# Altium footprint library IC.PcbLib: 37 footprints (part 2 of 3)
Each footprint in its own frame and in the unit in brackets; x right, y up, seen from the top. Pads: shape width x height; smd on the part's side, far side on the other; paste and mask are expansions set on the pad; w line width, h text height; cw(c..) or ccw(c..) is an arc to the next point about the centre after c.
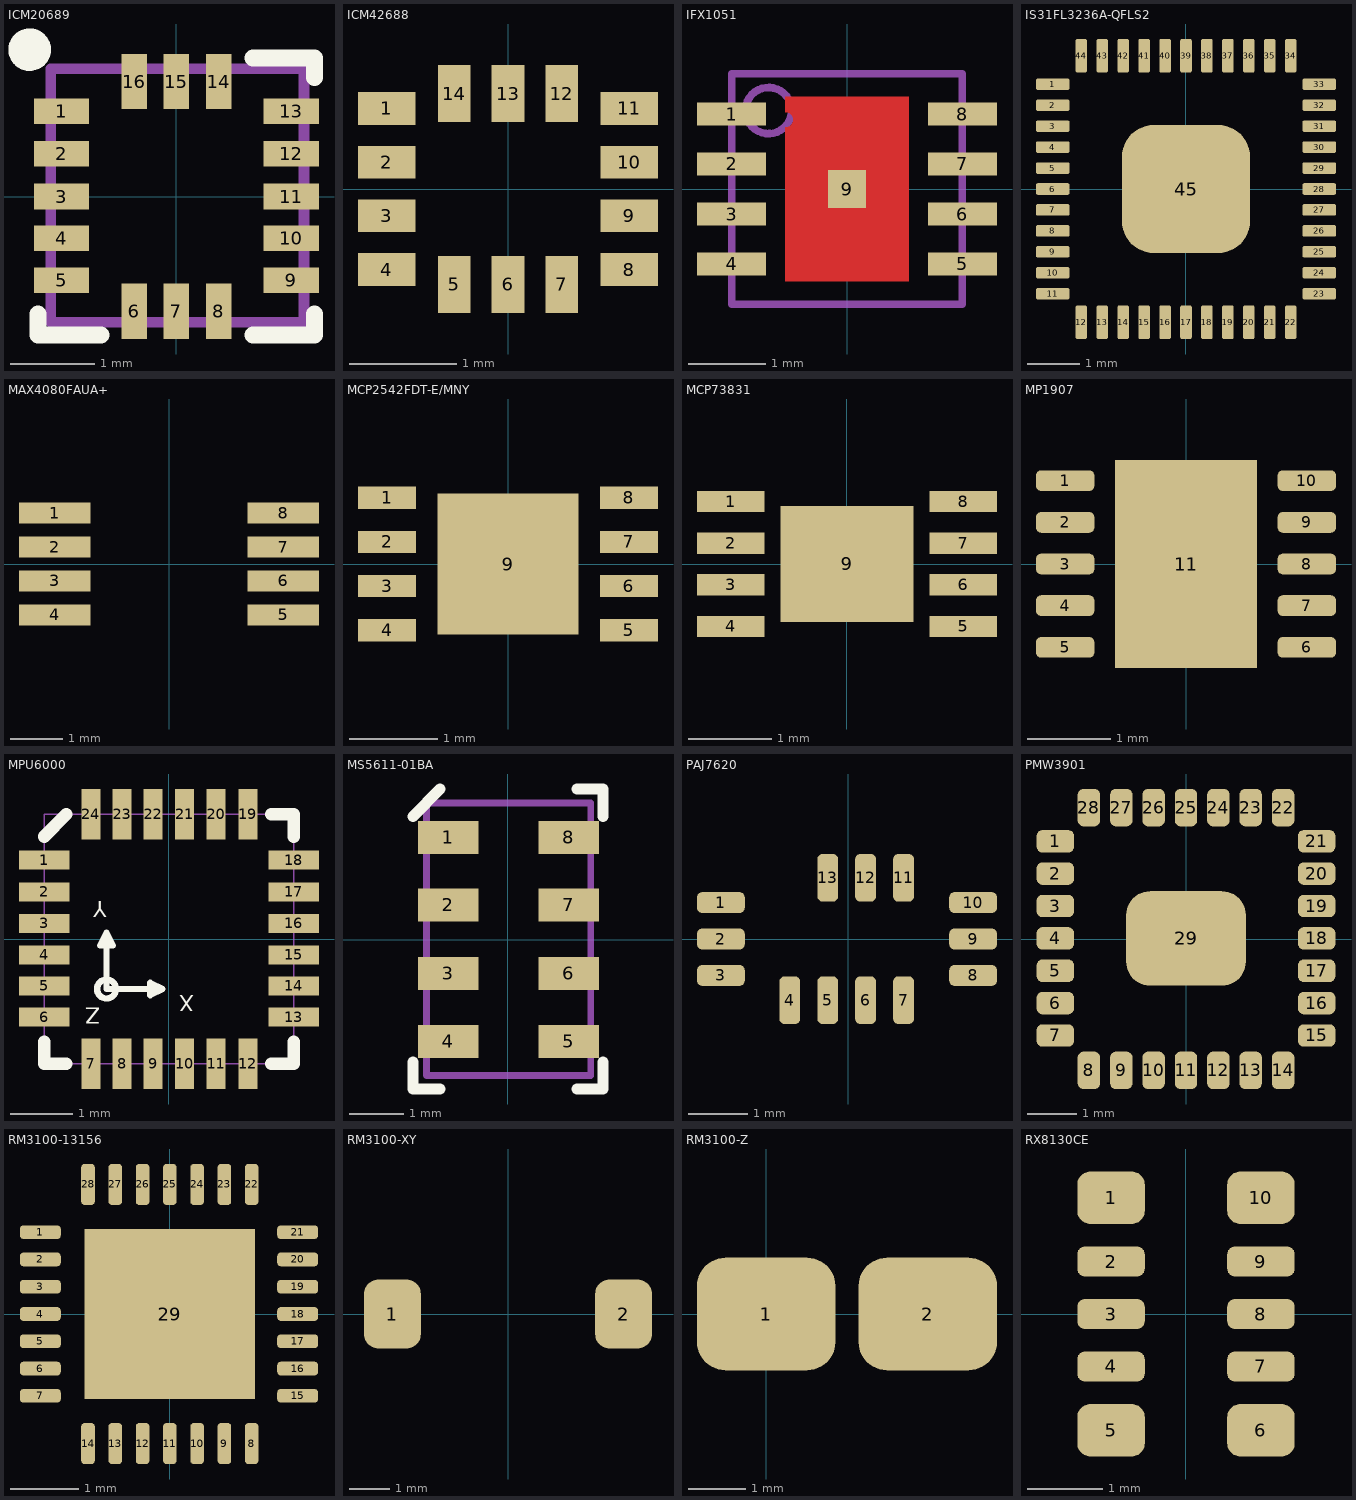
[diagram p1: the footprints below, top view; thin cyan lines are the x and y axes]

## ICM20689 [mil] "LGA-16L"
pads (16):
  rect 26x12 smd mask+0: 1(-53.94,40) 2(-53.94,20) 3(-53.94,0) 4(-53.94,-19.69) 5(-53.94,-39.37) 9(54,-39.37) 10(54,-19.69) 11(54,0) 12(54,20) 13(54,40)
  rect 12x26 smd mask+0: 6(-19.68,-53.94) 7(0,-53.94) 8(20,-53.94) 14(20,54) 15(0,54) 16(-19.68,54)
Top Overlay:
  circle w10: c-68.9,69 r5
  lines w8: -64.96,-55.12 -64.96,-64.96 -35.43,-64.96 ; 36,-64.96 65,-64.96 65,-55.12 ; 36,65 65,65 65,56
Mechanical 16:
  lines w5: -59.06,-59.06 60,-59.06 60,60 -59.06,60 -59.06,-59.06
3D body "LSM303D.STEP": height -16.54, standoff -56.69, extent -59.05,-59.05 59.06,59.06

## ICM42688 [mil]
pads (14):
  rect 21x12 smd paste+0 mask+0: 1(-44.5,29.53) 2(-44.5,9.84) 3(-44.5,-9.84) 4(-44.5,-29.53) 8(44.5,-29.53) 9(44.5,-9.84) 10(44.5,9.84) 11(44.5,29.53)
  rect 12x21 smd paste+0 mask+0: 5(-19.68,-35) 6(0,-35) 7(19.68,-35) 12(19.68,35) 13(0,35) 14(-19.68,35)
3D body "LGA14_2P5X3X0P91_IVS.step": height 38.11, standoff 0, extent -59.01,-49.01 59.02,49.02

## IFX1051 [mm]
pads (9):
  rect 0.9x0.3 smd paste+0 mask+0: 1(-1.5,0.975) 2(-1.5,0.325) 3(-1.5,-0.325) 4(-1.5,-0.975) 5(1.5,-0.975) 6(1.5,-0.325) 7(1.5,0.325) 8(1.5,0.975)
  rect 0.5x0.5 smd paste-0.5 mask-0.5: 9(0,0)
Top Layer:
  region: 0.8,1.2 -0.8,1.2 -0.8,1 -0.78,0.998 -0.744,0.983 -0.717,0.956 -0.702,0.92 -0.7,0.9 -0.702,0.88 -0.717,0.844 -0.744,0.817 -0.78,0.802 -0.8,0.8 -0.8,-1.2 0.8,-1.2
Top Paste:
  region: 0.1,0.1 0.7,0.1 0.7,1.1 0.1,1.1
  region: -0.1,-0.1 -0.7,-0.1 -0.7,-1.1 -0.1,-1.1
  region: 0.1,-0.1 0.7,-0.1 0.7,-1.1 0.1,-1.1
  region: -0.1,0.1 -0.7,0.1 -0.7,1.1 -0.1,1.1
Mechanical 13:
  circle w0.1: c-1.02,1.02 r0.3
  lines w0.1: -1.5,-1.5 1.5,-1.5 1.5,1.5 -1.5,1.5 -1.5,-1.5
Mechanical 15:
  lines w0.1: -0.5,0 0.5,0 ; 0,-0.5 0,0.5
3D body "TSON-8-1.stp": height 1.06, standoff 0, extent -1.5,-1.5 1.5,1.5

## IS31FL3236A-QFLS2 [mm]
pads (45):
  rrect30% 0.64x0.22 smd: 1(-2.545,2) 2(-2.545,1.6) 3(-2.545,1.2) 4(-2.545,0.8) 5(-2.545,0.4) 6(-2.545,0) 7(-2.545,-0.4) 8(-2.545,-0.8) 9(-2.545,-1.2) 10(-2.545,-1.6) 11(-2.545,-2) 23(2.545,-2) 24(2.545,-1.6) 25(2.545,-1.2) 26(2.545,-0.8) 27(2.545,-0.4) 28(2.545,0) 29(2.545,0.4) 30(2.545,0.8) 31(2.545,1.2) 32(2.545,1.6) 33(2.545,2)
  rrect30% 0.22x0.64 smd: 12(-2,-2.545) 13(-1.6,-2.545) 14(-1.2,-2.545) 15(-0.8,-2.545) 16(-0.4,-2.545) 17(0,-2.545) 18(0.4,-2.545) 19(0.8,-2.545) 20(1.2,-2.545) 21(1.6,-2.545) 22(2,-2.545) 34(2,2.545) 35(1.6,2.545) 36(1.2,2.545) 37(0.8,2.545) 38(0.4,2.545) 39(0,2.545) 40(-0.4,2.545) 41(-0.8,2.545) 42(-1.2,2.545) 43(-1.6,2.545) 44(-2,2.545)
  rrect50% 2.45x2.45 smd paste-2: 45(0,0)
3D body "IS31FL3236A-QFLS2-TR--3DModel-STEP-56544.STEP": height 0.8, standoff 0, extent -2.5,-2.5 2.5,2.5

## MAX4080FAUA+ [mil]
pads (8):
  rect 54x16 smd: 1(-86,38.39) 2(-86,12.8) 3(-86,-12.8) 4(-86,-38.39) 5(86,-38.39) 6(86,-12.8) 7(86,12.8) 8(86,38.39)
3D body "21-0036K.step": height 43.11, standoff 0, extent -99.01,-60.98 99.02,60.99

## MCP2542FDT-E/MNY [mil]
pads (9):
  rect 26x10 smd paste+0 mask+0: 1(-54,29.53) 2(-54,9.84) 3(-54,-9.84) 4(-54,-29.53) 5(54,-29.53) 6(54,-9.84) 7(54,9.84) 8(54,29.53)
  rect 63x63 smd paste+0 mask+0: 9(0,0)
3D body "User Library-8-TDFN (2x3.step": height 28.74, standoff -0.79, extent -59.1,-39.42 59.09,39.4

## MCP73831 [mil]
pads (9):
  rect 32x10 smd paste+0 mask+0: 1(-55,29.53) 2(-55,9.84) 3(-55,-9.84) 4(-55,-29.53) 5(55,-29.53) 6(55,-9.84) 7(55,9.84) 8(55,29.53)
  rect 62.99x55.12 smd paste+0 mask+0: 9(0,0)
3D body: height 25.79, standoff 0, extent -59.06,-39.86 59.06,39.86

## MP1907 [mm]
pads (11):
  rrect50% 0.7x0.25 smd: 1(-1.45,1) 2(-1.45,0.5) 3(-1.45,0) 4(-1.45,-0.5) 5(-1.45,-1) 6(1.45,-1) 7(1.45,-0.5) 8(1.45,0) 9(1.45,0.5) 10(1.45,1)
  rect 1.7x2.5 smd: 11(0,0)
3D body "User Library-10m1 QFN50P300X300X100-10_270X175_IPC-7351B.STEP": height 1, standoff -0.05, extent -1.51,-1.5 1.51,1.5

## MPU6000 [mil] "QFN24"
pads (24):
  rect 32x12 smd: 1(-78.74,50) 2(-78.74,30) 3(-78.74,10) 4(-78.74,-9.84) 5(-78.74,-29.53) 6(-78.74,-49.21) 13(79,-49.21) 14(79,-29.53) 15(79,-9.84) 16(79,10) 17(79,30) 18(79,50)
  rect 12x32 smd: 7(-49.21,-78.74) 8(-29.53,-78.74) 9(-9.84,-78.74) 10(10,-78.74) 11(30,-78.74) 12(50,-78.74) 19(50,79) 20(30,79) 21(10,79) 22(-9.84,79) 23(-29.53,79) 24(-49.21,79)
Top Overlay:
  circle w4: c-39.37,-31.5 r6
  lines w4: -39.37,4 -35.43,-3.94 -43.31,-3.94 -39.37,4 ; -39.37,4 -39.37,-31.5 -3.94,-31.5 ; -3.94,-31.5 -11.81,-27.56 -11.81,-35.43 -3.94,-31.5
  lines w8: -78.74,-64.96 -78.74,-78.74 -64.96,-78.74 ; -78.74,65 -64.96,79 ; 65,-78.74 79,-78.74 79,-64.96 ; 65,79 79,79 79,65
  text "Z" at -43.31,-43.31 h10.2
  text "Y" at -39.37,24 h10.2
  text "X" at 16,-35.43 h10.2
Mechanical 16:
  lines w1: -78.74,-78.74 79,-78.74 79,79 -78.74,79 -78.74,-78.74
3D body "MPU6000.STEP": height 35.43, standoff 0, extent -78.82,-78.82 78.82,78.82

## MS5611-01BA [mil] "MS5611-01BA"
pads (8):
  rect 44x24 smd: 1(-43.31,74) 2(-43.31,25) 3(-43.31,-24.61) 4(-43.31,-73.82) 5(44,-73.82) 6(44,-24.61) 7(44,25) 8(44,74)
Top Overlay:
  lines w8: -68.9,-88.58 -68.9,-108.27 -49.21,-108.27 ; -68.9,89 -49.21,109 ; 50,-108.27 69,-108.27 69,-88.58 ; 50,109 69,109 69,89
Mechanical 16:
  lines w1: -59.06,-98.43 -59.06,99 60,99 60,-98.43 -59.06,-98.43
  lines w5: -59.06,-98.43 -59.06,99 60,99 60,-98.43 -59.06,-98.43
3D body "MS5611-01BA03.STEP": height 39.37, standoff -1.97, extent -59.32,-97.97 58.79,98.88

## PAJ7620 [mm]
pads (13):
  rrect50% 0.8x0.35 smd paste+0 mask+0.102: 1(-2.137,0.61) 2(-2.137,0) 3(-2.137,-0.61) 8(2.088,-0.61) 9(2.088,0) 10(2.088,0.61)
  rrect50% 0.35x0.8 smd paste+0 mask+0.102: 4(-0.983,-1.025) 5(-0.348,-1.025) 6(0.287,-1.025) 7(0.922,-1.025) 11(0.922,1.025) 12(0.287,1.025) 13(-0.348,1.025)
3D body: height 1.88, standoff 0, extent -2.612,-1.5 2.613,1.5

## PMW3901 [mm]
pads (29):
  rrect50% 0.75x0.45 smd: 1(-2.625,1.963) 2(-2.625,1.312) 3(-2.625,0.663) 4(-2.625,0.012) 5(-2.625,-0.637) 6(-2.625,-1.288) 7(-2.625,-1.937) 15(2.625,-1.937) 16(2.625,-1.288) 17(2.625,-0.638) 18(2.625,0.012) 19(2.625,0.662) 20(2.625,1.312) 21(2.625,1.962)
  rrect50% 0.45x0.75 smd: 8(-1.95,-2.638) 9(-1.3,-2.638) 10(-0.65,-2.638) 11(0,-2.638) 12(0.65,-2.638) 13(1.3,-2.638) 14(1.95,-2.638) 22(1.95,2.638) 23(1.3,2.638) 24(0.65,2.638) 25(0,2.638) 26(-0.65,2.638) 27(-1.3,2.638) 28(-1.95,2.638)
  rrect50% 2.4x1.9 smd: 29(0,0.012)
3D body: height 1.15, standoff 0, extent -3.011,-3.008 3,3.012

## RM3100-13156 [mm]
pads (29):
  rrect50% 0.6x0.2 smd: 1(-1.9,1.2) 2(-1.9,0.8) 3(-1.9,0.4) 4(-1.9,0) 5(-1.9,-0.4) 6(-1.9,-0.8) 7(-1.9,-1.2) 15(1.875,-1.2) 16(1.875,-0.8) 17(1.875,-0.4) 18(1.875,0) 19(1.875,0.4) 20(1.875,0.8) 21(1.875,1.2)
  rrect50% 0.2x0.6 smd: 8(1.2,-1.9) 9(0.8,-1.9) 10(0.4,-1.9) 11(0,-1.9) 12(-0.4,-1.9) 13(-0.8,-1.9) 14(-1.2,-1.9) 22(1.2,1.9) 23(0.8,1.9) 24(0.4,1.9) 25(0,1.9) 26(-0.4,1.9) 27(-0.8,1.9) 28(-1.2,1.9)
  rect 2.5x2.5 smd: 29(0,0)
3D body "User Library-QFN28-0_4.STEP": height 0.75, standoff 0, extent -2,-2 2,2

## RM3100-XY [mm]
pads (2):
  rrect50% 1.4x1.7 smd: 1(-2.85,0) 2(2.85,0)
3D body: height 2.21, standoff 0, extent -3,-1.05 3,1.05

## RM3100-Z [mm]
pads (2):
  rrect50% 2.4x1.95 smd: 1(0,0) 2(2.8,0)
3D body: height 1.8, standoff 0, extent -0.525,-1.475 3.35,1.475
3D body: height 6.35, standoff 0, extent 0.2,-1.475 2.7,1.475

## RX8130CE [mm] "RTC"
pads (10):
  rrect50% 0.9x0.7 smd: 1(-1,1.55) 5(-1,-1.55) 6(1,-1.55) 10(1,1.55)
  rrect50% 0.9x0.4 smd: 2(-1,0.7) 3(-1,0) 4(-1,-0.7) 7(1,-0.7) 8(1,0) 9(1,0.7)
3D body "User Library-RX8130CE.STEP": height 1, standoff 0, extent -1.25,-1.6 1.25,1.6